# Altium schematic symbol library SCH - CONNECTORS - TE 1-776228-1.SCHLIB: 1 symbol
Pins are listed as number, name and electrical type; pins without a type are passive.

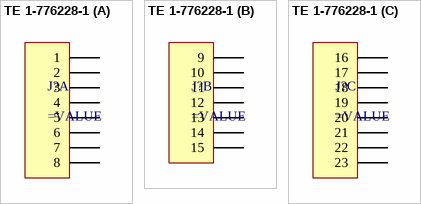
[diagram p0: symbol TE 1-776228-1]

## TE 1-776228-1
designator J?
part A pins: 1, 2, 3, 4, 5, 6, 7, 8
part B pins: 9, 10, 11, 12, 13, 14, 15
part C pins: 16, 17, 18, 19, 20, 21, 22, 23